# EAGLE library part LCD-3.2INCH (library LCD-3.5INCH)
For use with coldtears electronics 3.2INCH SPDF54081LCD THE LCD HAS 37PINS WHILE THIS FOOTPRINT HAS 44PINS. EXTRA PINS ARE UNCONNECTED
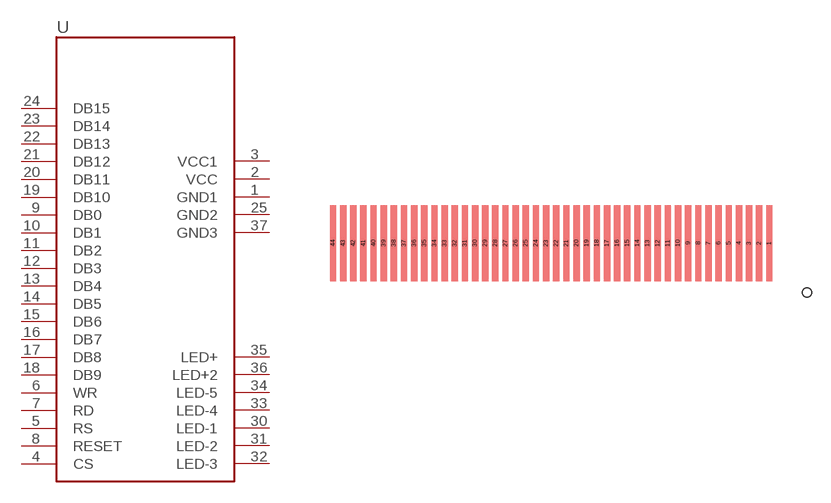
[diagram p3: symbol with the pads of LCD-3.5-44PIN-0.8; footprint LCD-3.5-44PIN-0.8]

Designator prefix -

## LCD-3.2INCH  [LCD-3.5-44PIN-0.8]
1  GND1
2  VCC
3  VCC1
4  CS
5  RS
6  WR
7  RD
8  RESET
9  DB0
10  DB1
11  DB2
12  DB3
13  DB4
14  DB5
15  DB6
16  DB7
17  DB8
18  DB9
19  DB10
20  DB11
21  DB12
22  DB13
23  DB14
24  DB15
25  GND2
30  LED-1
31  LED-2
32  LED-3
33  LED-4
34  LED-5
35  LED+
36  LED+2
37  GND3

## Footprint LCD-3.5-44PIN-0.8 (pad centres in mm)
smd 0.5 x 6: 1 -2.84,-2.45; 2 -3.64,-2.45; 3 -4.44,-2.45; 4 -5.24,-2.45; 5 -6.04,-2.45; 6 -6.84,-2.45; 7 -7.64,-2.45; 8 -8.44,-2.45; 9 -9.24,-2.45; 10 -10.04,-2.45; 11 -10.84,-2.45; 12 -11.64,-2.45; 13 -12.44,-2.45; 14 -13.24,-2.45; 15 -14.04,-2.45; 16 -14.84,-2.45; 17 -15.64,-2.45; 18 -16.44,-2.45; 19 -17.24,-2.45; 20 -18.04,-2.45; 21 -18.84,-2.45; 22 -19.64,-2.45; 23 -20.44,-2.45; 24 -21.24,-2.45; 25 -22.04,-2.45; 26 -22.84,-2.45; 27 -23.64,-2.45; 28 -24.44,-2.45; 29 -25.24,-2.45; 30 -26.04,-2.45; 31 -26.84,-2.45; 32 -27.64,-2.45; 33 -28.44,-2.45; 34 -29.24,-2.45; 35 -30.04,-2.45; 36 -30.84,-2.45; 37 -31.64,-2.45; 38 -32.44,-2.45; 39 -33.24,-2.45; 40 -34.04,-2.45; 41 -34.84,-2.45; 42 -35.64,-2.45; 43 -36.44,-2.45; 44 -37.24,-2.45